# Altium schematic symbol library SCH - CURRENT SHUNT AMPLIFIER - TI INA180A DBV.SCHLIB: 1 symbol
Pins are listed as number, name and electrical type; pins without a type are passive.

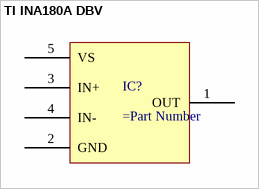
[diagram p0: symbol TI INA180A DBV]

## TI INA180A DBV
designator IC?
pins: 1 OUT, 2 GND, 3 IN+, 4 IN-, 5 VS